# Altium schematic symbol library 栅栏式端子.SchLib: 1 symbol
Pins are listed as number, name and electrical type; pins without a type are passive.

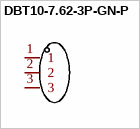
[diagram p0: symbol DBT10-7.62-3P-GN-P]

## DBT10-7.62-3P-GN-P
designator U?  (value not drawn)
Manufacturer: DIBO(地博电气); Symbol: DBT10-7.62-3P_C479936; Add into BOM: yes; Barrier Type: 两面; Pitch: 7.62mm; Structure: 1x3P; Number of PINs Per Row: 3; Pin Location: 边脚; Current Rating (Max): 24A; Voltage Rating (Max): 450V; Wire Gauge - AWG: 14~22; Name: DBT10-7.62-3P-GN-P; Device: DBT10-7.62-3P-GN-P; LCSC Part Name: 7.62mm 1x3P 每排P数:3 排数:1 直针 边脚; Supplier Part: C479936; Manufacturer Part: DBT10-7.62-3P-GN-P; Supplier Footprint: 插件,P=7.62mm; JLCPCB Part Class: Extended Part; Datasheet: https://atta.szlcsc.com/upload/public/pdf/source/20220829/142E7C35D23BAF4CB2C2C2859B028F1D.pdf; Supplier: LCSC; Convert to PCB: yes; Number of Rows: 1; Mounting Style: 直针; Wire Gauge - mm2: -; Operating Temperature Range: -40℃~+105℃; Color: 绿色; Number of Pins: 3P
footprint CONN-TH_3P-P7.62_L12.4-W22.9-EX1.9
3D model CONN-TH_3P-P7.62_L12.4-W22.9-EX1.9
pins: 1, 2, 3